# Altium schematic symbol library VBlib_Non_PCB_Components.SchLib: 14 symbols
Pins are listed as number, name and electrical type; pins without a type are passive.

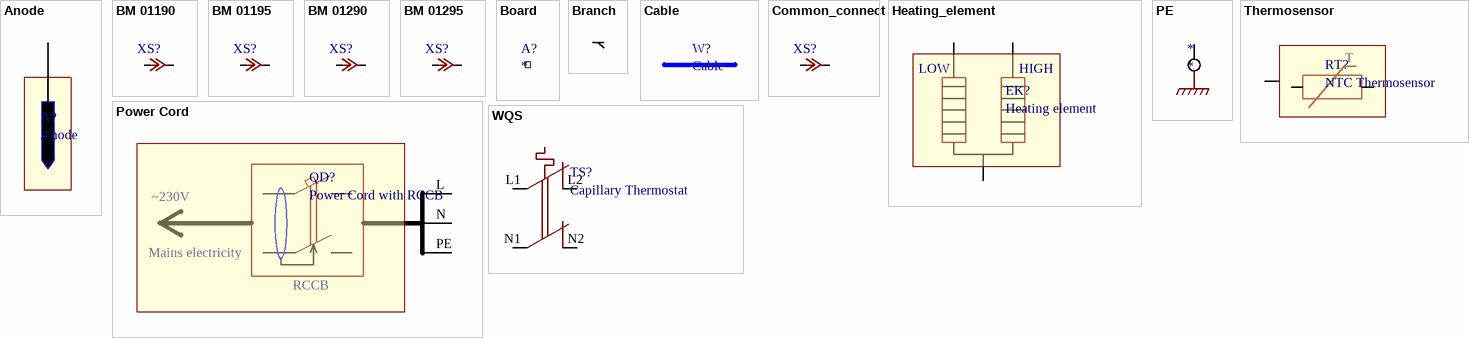
[diagram p0: symbols Anode to WQS]

## Anode
designator A?
Electronic Anode
pins: 1 IN

## BM 01190
designator XS?  (value not drawn)
Brass uninsulated terminals, 6.3x0.8mm, female, 0.5-1.0mm2
pins: 1, 2

## BM 01195
designator XS?  (value not drawn)
Brass uninsulated terminals, 6.3mm, female, flag-type, 0.5-1.0mm2
pins: 1, 2

## BM 01290
designator XS?  (value not drawn)
Brass uninsulated terminals, 6.3x0.8mm, female, 1.0-2.5mm2
pins: 1, 2

## BM 01295
designator XS?  (value not drawn)
Brass uninsulated terminals, 6.3mm, female, flag-type, 1.5-2.5mm2
pins: 1, 2

## Board
designator A?

## Branch
designator *  (value not drawn)  (no BOM)
pins: 1, 1, 1

## Cable
designator W?
pins: 1, 1

## Common_connect
designator XS?  (value not drawn)  (no BOM)
pins: 1, 2

## Heating_element
designator EK?, comment Heating element
Heating element for smart inverter boiler, 700+1300W
pins: 2 N, 2 LOW, 2 HIGH

## PE
designator *
pins: 1

## Power Cord
designator QD?, comment Power Cord with RCCB
Power cord with Type F (Schuko) power plug and RCCB
pins: L (power), N (power), PE (power)
text: ~230V; Mains electricity; RCCB

## Thermosensor
designator RT?, comment NTC Thermosensor
NTC Thermosensor, 50K with cable with XH type connector
pins: 1
text: T

## WQS
designator TS?, comment Capillary Thermostat
WQS Series Capillary Thermostat
pins: L1, L2, N1, N2